# EAGLE library part L-KLS1-TF-003-H1.85-R (library Connectors)
Micro SD Card Connector Source: Datasheet <https://img.ozdisan.com/ETicaret_Dosya/476392_7149645.pdf>
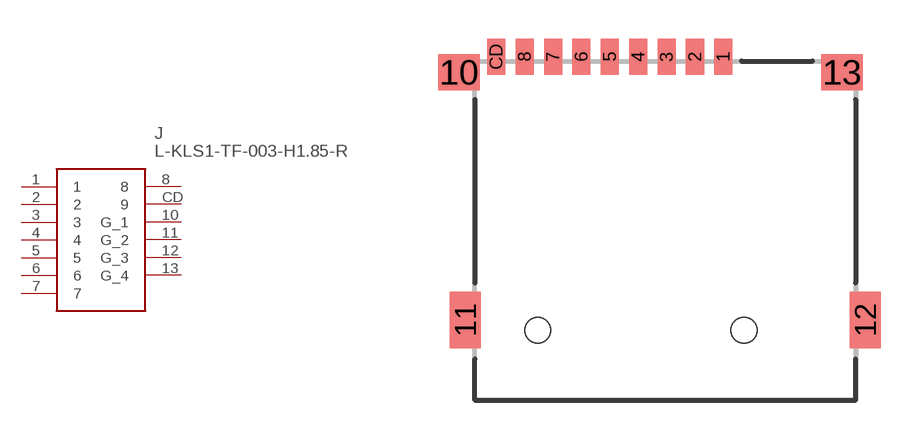
[diagram p22: symbol with the pads of L-KLS1-TF-003-H1.85-R; footprint L-KLS1-TF-003-H1.85-R]

Designator prefix J

## L-KLS1-TF-003-H1.85-R (DESCRIPTION: Micro SD Card Connector; HEIGHT: mm; MANUFACTURER_NAME: KLS Electronic; MANUFACTURER_PART_NUMBER: L-KLS1-TF-003-H1.85-R)  [L-KLS1-TF-003-H1.85-R]
1  1
2  2
3  3
4  4
5  5
6  6
7  7
8  8
10  G_1
11  G_2
12  G_3
13  G_4
CD  9

## Footprint L-KLS1-TF-003-H1.85-R (pad centres in mm)
Drawing <https://img80002547.weyesimg.com/uploads/www.klselectronic.com/addon/15616441354095.pdf>
smd 0.7 x 1.4: 1 2.25,10.6; 2 1.15,10.6; 3 0.05,10.6; 4 -1.05,10.6; 5 -2.15,10.6; 6 -3.25,10.6; 7 -4.35,10.6; 8 -5.45,10.6; CD -6.55,10.6
smd 1.6 x 1.4: 10 -8,10; 13 6.85,10
smd 1.2 x 2.2: 11 -7.75,0.4; 12 7.75,0.4
hole 1 at -4.95,0
hole 1 at 3.05,0